# Altium footprint library ne555_PcbLib.PcbLib: 3 footprints
Each footprint in its own frame and in the unit in brackets; x right, y up, seen from the top. Pads: shape width x height; smd on the part's side, far side on the other; paste and mask are expansions set on the pad; w line width, h text height; cw(c..) or ccw(c..) is an arc to the next point about the centre after c.
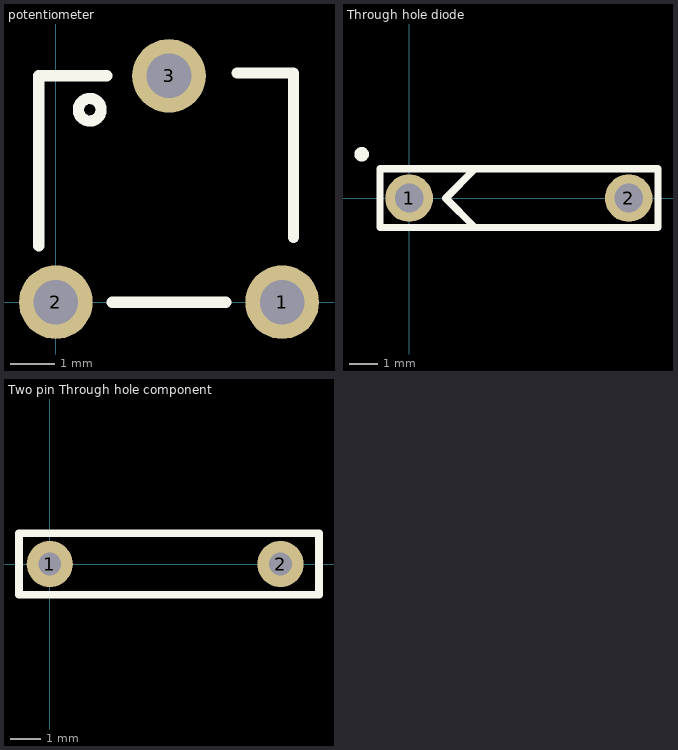
[diagram p0: the footprints below, top view; thin cyan lines are the x and y axes]

## potentiometer [mil] "3 pin potentiometer , Through hole component"
pads (3):
  round 65 hole 39.37 mask+6: 1(200,0) 2(0,0) 3(100,200)
Top Overlay:
  circle w10: c30,170 r10
  lines w10: -15,50 -15,200 45,200 ; 50,0 150,0 ; 160,202.5 210,202.5 210,166.25 210,148.12 210,111.88 210,93.75 210,57.5

## Through hole diode [mil]
pads (2):
  round 65 hole 39.37: 1(0,0) 2(300,0)
Top Overlay:
  circle w10: c-65,60 r5
  lines w10: 90,-40 50,0 90,40 ; -40,-40 -30,-40 340,-40 340,40 -40,40 -40,-40

## Two pin Through hole component [mil] "two pin through hole component like Resistor, diode and other standard 0.3 inch wide through hole pads"
pads (2):
  round 60 hole 29.53: 1(0,0) 2(300,0)
Top Overlay:
  lines w10: -40,-40 -40,40 350,40 350,-40 -20,-40 -40,-40